# Altium schematic symbol library SM04B-SRSS-TB.SchLib: 1 symbol
Pins are listed as number, name and electrical type; pins without a type are passive.

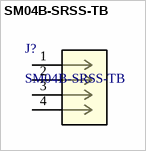
[diagram p0: symbol SM04B-SRSS-TB]

## SM04B-SRSS-TB
designator J?
Description; Manufacturer_Name: JST; Copyright: Copyright (C) 2026 Ultra Librarian. All rights reserved.; Manufacturer_Part_Number: SM04B-SRSS-TB; RefDes: RefDes; Type: Type
footprint CONN_SM04B-SRSS-TB_JST
pins: 1, 2, 3, 4